# Altium schematic symbol library Fujikura.SchLib: 4 symbols
Pins are listed as number, name and electrical type; pins without a type are passive.

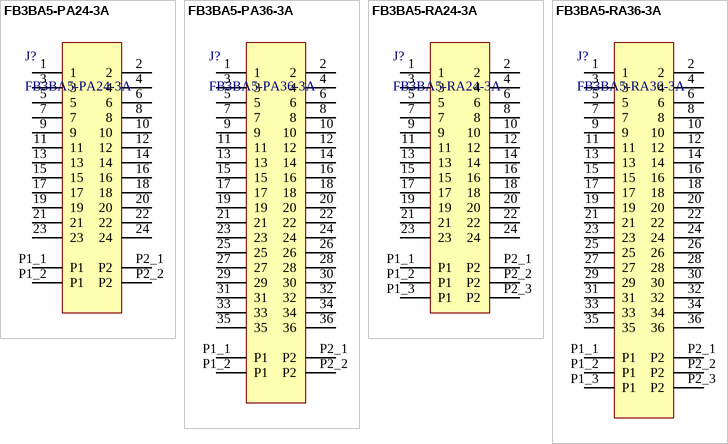
[diagram p0: symbols FB3BA5-PA24-3A to FB3BA5-RA36-3A]

## FB3BA5-PA24-3A
designator J?
Plug 24Pin, FB3BA5 is a 0.3mm pitch board to board(FPC) connector with a stacking height of 0.5mm and a depth of 1.55mm
footprint FB3BA5-PA24-3A (Plug 24Pin, FB3BA5 is a 0.3mm pitch board to board(FPC) connector with a stacking height of 0.5mm and a depth of 1.55mm)
pins: 1, 2, 3, 4, 5, 6, 7, 8, 9, 10, 11, 12, 13, 14, 15, 16, 17, 18, 19, 20, 21, 22, 23, 24, P1_1 P1, P1_2 P1, P2_1 P2, P2_2 P2

## FB3BA5-PA36-3A
designator J?
Plug 36Pin, FB3BA5 is a 0.3mm pitch board to board(FPC) connector with a stacking height of 0.5mm and a depth of 1.55mm
footprint FB3BA5-PA36-3A (Plug 36Pin, FB3BA5 is a 0.3mm pitch board to board(FPC) connector with a stacking height of 0.5mm and a depth of 1.55mm)
pins: 1, 2, 3, 4, 5, 6, 7, 8, 9, 10, 11, 12, 13, 14, 15, 16, 17, 18, 19, 20, 21, 22, 23, 24, 25, 26, 27, 28, 29, 30, 31, 32, 33, 34, 35, 36, P1_1 P1, P1_2 P1, P2_1 P2, P2_2 P2

## FB3BA5-RA24-3A
designator J?
Recaptacle 24Pin, FB3BA5 is a 0.3mm pitch board to board(FPC) connector with a stacking height of 0.5mm and a depth of 1.55mm
footprint FB3BA5-RA24-3A (Recaptacle 24Pin, FB3BA5 is a 0.3mm pitch board to board(FPC) connector with a stacking height of 0.5mm and a depth of 1.55mm)
pins: 1, 2, 3, 4, 5, 6, 7, 8, 9, 10, 11, 12, 13, 14, 15, 16, 17, 18, 19, 20, 21, 22, 23, 24, P1_1 P1, P1_2 P1, P1_3 P1, P2_1 P2, P2_2 P2, P2_3 P2

## FB3BA5-RA36-3A
designator J?
Recaptacle 36n, FB3BA5 is a 0.3mm pitch board to board(FPC) connector with a stacking height of 0.5mm and a depth of 1.55mm
footprint FB3BA5-RA36-3A (Recaptacle 36Pin, FB3BA5 is a 0.3mm pitch board to board(FPC) connector with a stacking height of 0.5mm and a depth of 1.55mm)
pins: 1, 2, 3, 4, 5, 6, 7, 8, 9, 10, 11, 12, 13, 14, 15, 16, 17, 18, 19, 20, 21, 22, 23, 24, 25, 26, 27, 28, 29, 30, 31, 32, 33, 34, 35, 36, P1_1 P1, P1_2 P1, P1_3 P1, P2_1 P2, P2_2 P2, P2_3 P2